# Altium schematic symbol library eBug2014-CameraArray.SchLib: 15 symbols
Pins are listed as number, name and electrical type; pins without a type are passive.

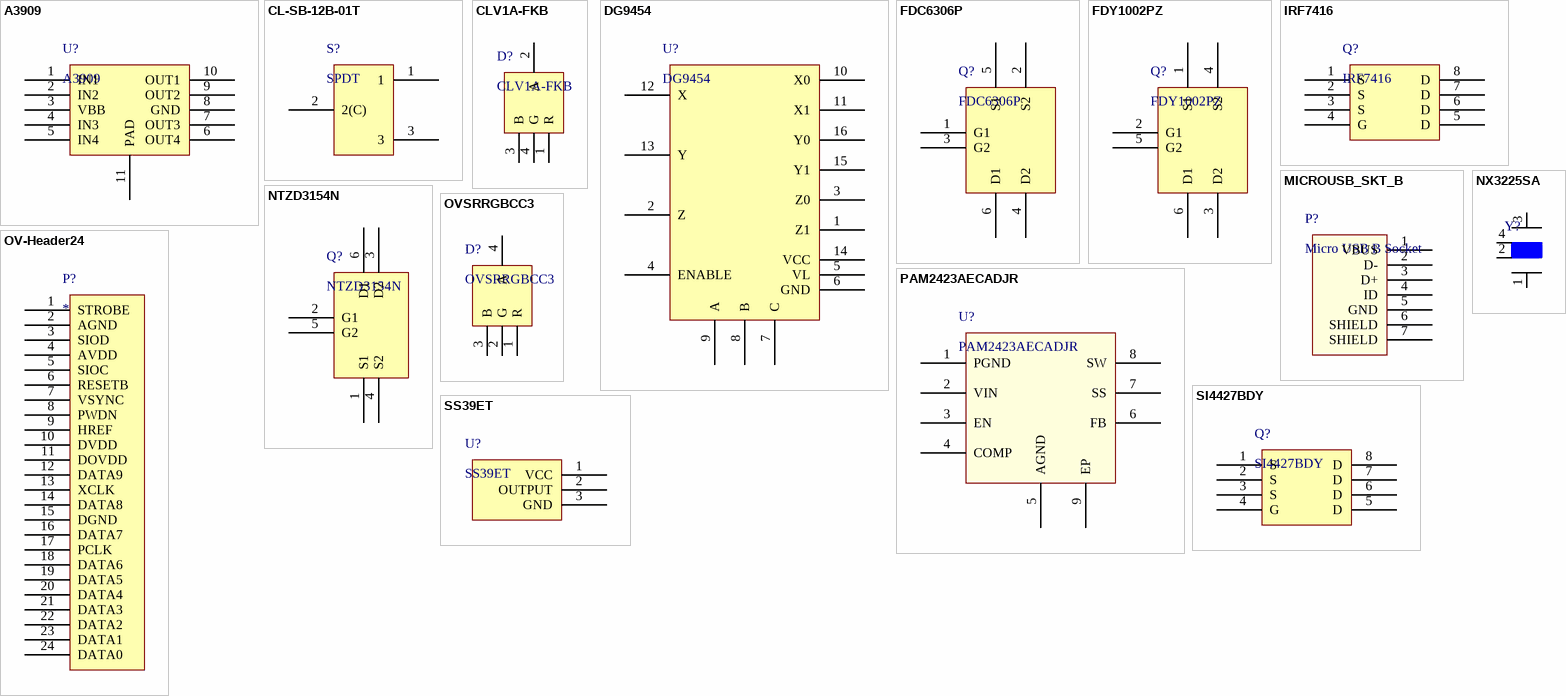
[diagram p0: symbols A3909 to SS39ET]

## A3909
designator U?
ALLEGRO - A3909GLYTR-T - IC MOTOR DRIVER PAR 10MSOP
footprint MSOP-10
pins: 1 IN1, 2 IN2, 3 VBB, 4 IN3, 5 IN4, 6 OUT4, 7 OUT3, 8 GND, 9 OUT2, 10 OUT1, 11 PAD

## CL-SB-12B-01T
designator S?, comment SPDT
COPAL ELECTRONICS INC - CL-SB-12B-01T - SWITCH SLIDE SPDT 0.2A GULL 12V
footprint CL-SB-12B-01T
pins: 1, 2 2(C), 3

## CLV1A-FKB
designator D?
CREE - CLV1A-FKB-CK1N1G1BB7R4S3 - LED RGB 3-IN-1 3.2X2.8MM 4PLCC
footprint PLCC4
footprint OVSRRGBCC3_TOP
pins: 1 R, 2 A, 3 B, 4 G

## DG9454
designator U?
VISHAY SILICONIX - DG9454 - IC MUX SPDT TRIPLE 16QFN
footprint mQFN-16
pins: 1 Z1, 2 Z, 3 Z0, 4 ENABLE, 5 VL, 6 GND, 7 C, 8 B, 9 A, 10 X0, 11 X1, 12 X, 13 Y, 14 VCC, 15 Y1, 16 Y0

## FDC6306P
designator Q?
FAIRCHILD SEMICONDUCTOR - FDC6306P - MOSFET 2P-CH 20V 1.9A SSOT6
footprint SOT-6
pins: 1 G1, 2 S2, 3 G2, 4 D2, 5 S1, 6 D1

## FDY1002PZ
designator Q?
FAIRCHILD SEMICONDUCTOR - FDY1002PZ - MOSFET 2P-CH 20V 0.83A SC89-6
footprint SC89-6
pins: 1 S1, 2 G1, 3 D2, 4 S2, 5 G2, 6 D1

## IRF7416
designator Q?
INTERNATIONAL RECTIFIER - IRF7416TRPBF - MOSFET P-CH 30V 10A 8-SOIC
footprint SOIC127P600-8AN (Footprint not found)
pins: 1 S, 2 S, 3 S, 4 G, 5 D, 6 D, 7 D, 8 D

## MICROUSB_SKT_B
designator P?, comment Micro USB B Socket
GLOBAL CONNECTOR TECHNOLOGY - USB3140-30-0170-1-C - CONNECTOR, USB 2.0 MICRO B, RCPT, 5POS, SMT
footprint USB3140-30-0170-1-C
pins: 1 VBUS, 2 D-, 3 D+, 4 ID, 5 GND, 6 SHIELD, 7 SHIELD

## NTZD3154N
designator Q?
ON SEMICONDUCTOR - NTZD3154N - MOSFET 2N-CH 20V 540MA SOT-563
footprint SOT-563-6 (SOT-563, 6 LEAD)
pins: 1 S1, 2 G1, 3 D2, 4 S2, 5 G2, 6 D1

## NX3225SA
designator Y?
NDK - NX3225SA
footprint NX3225SA
pins: 1, 2, 3, 4

## OV-Header24
designator P?
TE CONNECTIVITY - 2-1734592-4 - CONN FPC BOTTOM 24POS 0.50MM R/A
footprint 2-1734592-4_REVERSED
pins: 1 STROBE, 2 AGND, 3 SIOD, 4 AVDD, 5 SIOC, 6 RESETB, 7 VSYNC, 8 PWDN, 9 HREF, 10 DVDD, 11 DOVDD, 12 DATA9, 13 XCLK, 14 DATA8, 15 DGND, 16 DATA7, 17 PCLK, 18 DATA6, 19 DATA5, 20 DATA4, 21 DATA3, 22 DATA2, 23 DATA1, 24 DATA0

## OVSRRGBCC3
designator D?
OPTEK - OVSRRGBCC3 - LED RED/GRN/BLUE 1204 SMD
footprint OVSRRGBCC3_SIDE
footprint OVSRRGBCC3_TOP
pins: 1 R, 2 G, 3 B, 4 A

## PAM2423AECADJR
designator U?
DIODES INCORPORATED - PAM2423AECADJR - IC REG BOOST ADJ 5.5A 8SOIC
footprint SOIC127P600-8DN (Footprint not found)
pins: 1 PGND, 2 VIN, 3 EN, 4 COMP, 5 AGND, 6 FB, 7 SS, 8 SW, 9 EP

## SI4427BDY
designator Q?
VISHAY SILICONIX - SI4427BDY-T1-E3 - MOSFET P-CH 30V 9.7A 8-SOIC
footprint SOIC127P600-8AN (Footprint not found)
pins: 1 S, 2 S, 3 S, 4 G, 5 D, 6 D, 7 D, 8 D

## SS39ET
designator U?
HONEYWELL S&C - SS39ET - SENSOR, HALL EFFECT, LINEAR, SOT23-3
footprint SOT23-3N (Footprint not found)
pins: 1 VCC, 2 OUTPUT, 3 GND